# Altium integrated library Microchip PIC18.IntLib: 1897 symbols (part 46 of 110)
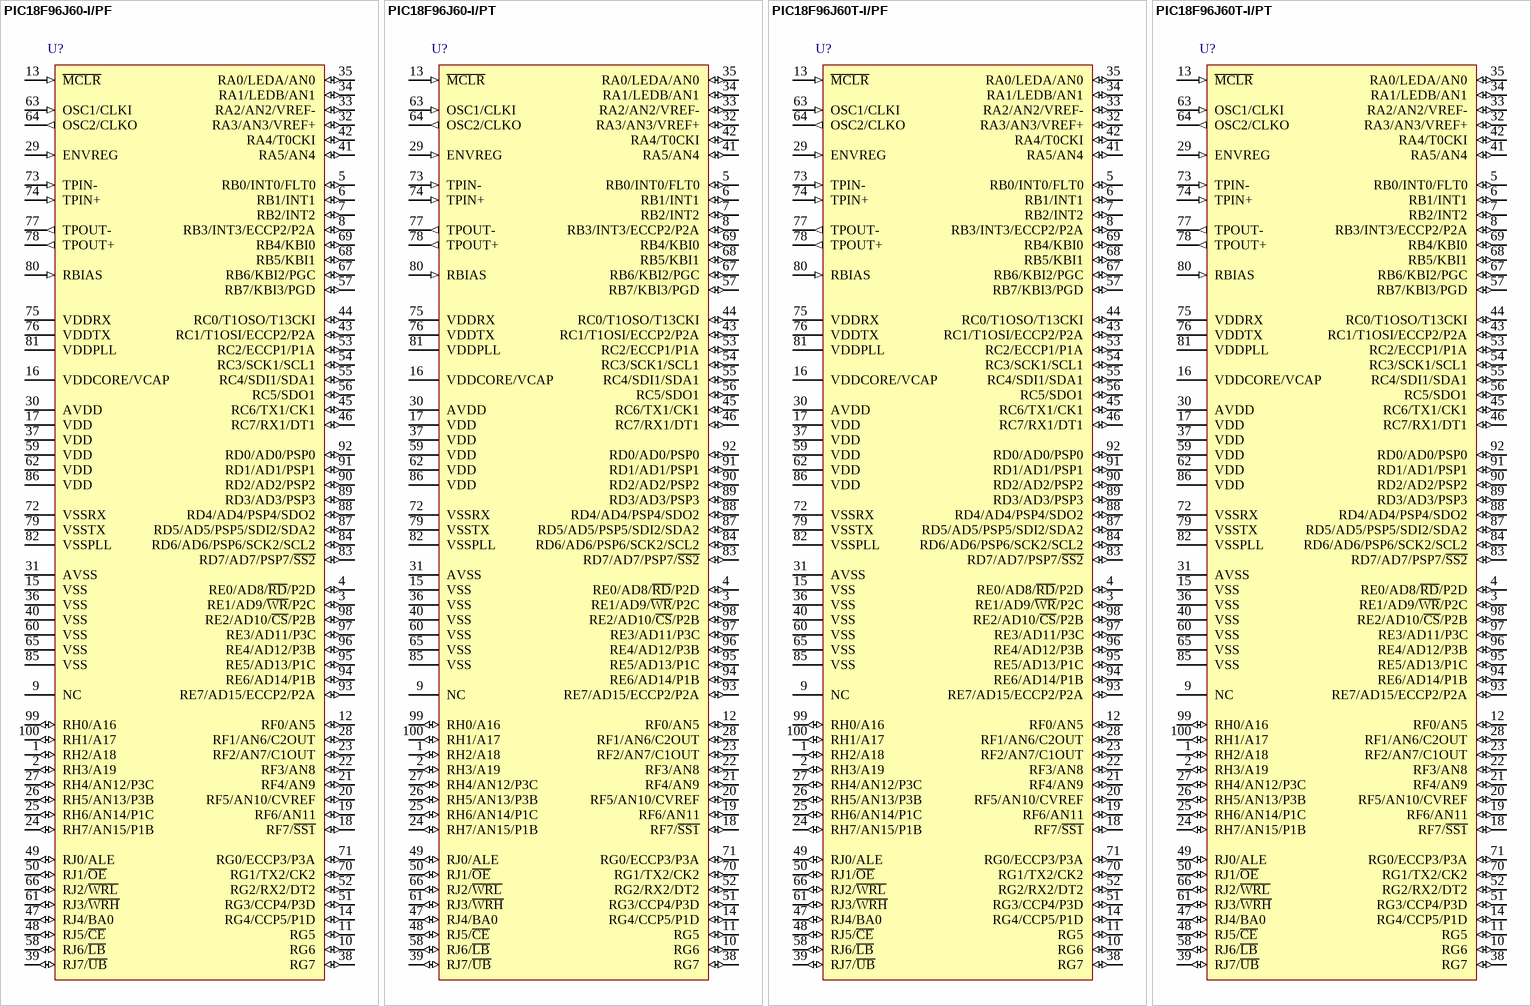
[diagram p345: symbols PIC18F96J60-I/PF to PIC18F96J60T-I/PT]

## PIC18F96J60T-I/PF
designator U?
High Performance, 1-Mbit Flash Microcontroller with Ethernet, 64K Flash, 100-Pin TQFP, Industrial Temperature Range, Tape and Reel; Manufacturer: Microchip; PartNumber: PIC18F96J60T-I/PF; DatasheetVersion: revE, Oct-2009; PackageVersion: revBB, Aug-2009; PackageReference: TQFP-PF100; PackageDescription: 100-Lead Thin Plastic Quad Flat Pack (PF) - 14x14x1mm Body, 2.00mm [TQFP]; ComponentLink1Description: Manufacturer URL; ComponentLink1URL: http://www.microchip.com/; ComponentLink2Description: Datasheet; ComponentLink2URL: http://ww1.microchip.com/downloads/en/DeviceDoc/39762e.pdf; ComponentLink3Description: Package Specification; ComponentLink3URL: http://www.microchip.com/stellent/groups/techpub_sg/documents/packagingspec/en012702.pdf
footprint TQFP-PF100_N (Thin QFP, 100-Leads, Body 14x14mm, Pitch 0.5mm, IPC Medium Density)
footprint TQFP-PF100_L (Thin QFP, 100-Leads, Body 14x14mm, Pitch 0.5mm, IPC High Density)
footprint TQFP-PF100_M (Thin QFP, 100-Leads, Body 14x14mm, Pitch 0.5mm, IPC Low Density)
pins: 1 RH2/A18 (io), 2 RH3/A19 (io), 3 RE1/AD9/~{WR}/P2C (io), 4 RE0/AD8/~{RD}/P2D (io), 5 RB0/INT0/FLT0 (io), 6 RB1/INT1 (io), 7 RB2/INT2 (io), 8 RB3/INT3/ECCP2/P2A (io), 9 NC, 10 RG6 (io), 11 RG5 (io), 12 RF0/AN5 (io), 13 ~{MCLR} (in), 14 RG4/CCP5/P1D (io), 15 VSS (power), 16 VDDCORE/VCAP (power), 17 VDD (power), 18 RF7/~{SS1} (io), 19 RF6/AN11 (io), 20 RF5/AN10/CVREF (io), 21 RF4/AN9 (io), 22 RF3/AN8 (io), 23 RF2/AN7/C1OUT (io), 24 RH7/AN15/P1B (io), 25 RH6/AN14/P1C (io), 26 RH5/AN13/P3B (io), 27 RH4/AN12/P3C (io), 28 RF1/AN6/C2OUT (io), 29 ENVREG (in), 30 AVDD (power), 31 AVSS (power), 32 RA3/AN3/VREF+ (io), 33 RA2/AN2/VREF- (io), 34 RA1/LEDB/AN1 (io), 35 RA0/LEDA/AN0 (io), 36 VSS (power), 37 VDD (power), 38 RG7 (io), 39 RJ7/~{UB} (io), 40 VSS (power), 41 RA5/AN4 (io), 42 RA4/T0CKI (io), 43 RC1/T1OSI/ECCP2/P2A (io), 44 RC0/T1OSO/T13CKI (io), 45 RC6/TX1/CK1 (io), 46 RC7/RX1/DT1 (io), 47 RJ4/BA0 (io), 48 RJ5/~{CE} (io), 49 RJ0/ALE (io), 50 RJ1/~{OE} (io), 51 RG3/CCP4/P3D (io), 52 RG2/RX2/DT2 (io), 53 RC2/ECCP1/P1A (io), 54 RC3/SCK1/SCL1 (io), 55 RC4/SDI1/SDA1 (io), 56 RC5/SDO1 (io), 57 RB7/KBI3/PGD (io), 58 RJ6/~{LB} (io), 59 VDD (power), 60 VSS (power), 61 RJ3/~{WRH} (io), 62 VDD (power), 63 OSC1/CLKI (in), 64 OSC2/CLKO (out), 65 VSS (power), 66 RJ2/~{WRL} (io), 67 RB6/KBI2/PGC (io), 68 RB5/KBI1 (io), 69 RB4/KBI0 (io), 70 RG1/TX2/CK2 (io), 71 RG0/ECCP3/P3A (io), 72 VSSRX (power), 73 TPIN- (in), 74 TPIN+ (in), 75 VDDRX (power), 76 VDDTX (power), 77 TPOUT- (out), 78 TPOUT+ (out), 79 VSSTX (power), 80 RBIAS (in), 81 VDDPLL (power), 82 VSSPLL (power), 83 RD7/AD7/PSP7/~{SS2} (io), 84 RD6/AD6/PSP6/SCK2/SCL2 (io), 85 VSS (power), 86 VDD (power), 87 RD5/AD5/PSP5/SDI2/SDA2 (io), 88 RD4/AD4/PSP4/SDO2 (io), 89 RD3/AD3/PSP3 (io), 90 RD2/AD2/PSP2 (io), 91 RD1/AD1/PSP1 (io), 92 RD0/AD0/PSP0 (io), 93 RE7/AD15/ECCP2/P2A (io), 94 RE6/AD14/P1B (io), 95 RE5/AD13/P1C (io), 96 RE4/AD12/P3B (io), 97 RE3/AD11/P3C (io), 98 RE2/AD10/~{CS}/P2B (io), 99 RH0/A16 (io), 100 RH1/A17 (io)

## PIC18F96J60T-I/PT
designator U?
High Performance, 1-Mbit Flash Microcontroller with Ethernet, 64K Flash, 100-Pin TQFP, Industrial Temperature Range, Tape and Reel; Manufacturer: Microchip; PartNumber: PIC18F96J60T-I/PT; DatasheetVersion: revE, Oct-2009; PackageVersion: C04-100B, 12/2012; PackageReference: TQFP-PT100; PackageDescription: 100-Lead Plastic Thin Quad Flatpack, 12 x 12 mm Body, 0.4 mm Pitch; ComponentLink1Description: Manufacturer URL; ComponentLink1URL: http://www.microchip.com/; ComponentLink2Description: Datasheet; ComponentLink2URL: http://ww1.microchip.com/downloads/en/DeviceDoc/39762e.pdf; ComponentLink3Description: Package Specification; ComponentLink3URL: http://www.microchip.com/stellent/groups/techpub_sg/documents/packagingspec/en012702.pdf
footprint MCHP-TQFP-PT100_N (QFP, 100-Leads, Body 12x12mm, Pitch 0.4mm, IPC Medium Density)
footprint MCHP-TQFP-PT100_L (QFP, 100-Leads, Body 12x12mm, Pitch 0.4mm, IPC High Density)
footprint MCHP-TQFP-PT100_M (TQFP, 100-Leads, Body 12x12mm, Pitch 0.4mm, IPC Low Density)
pins: 1 RH2/A18 (io), 2 RH3/A19 (io), 3 RE1/AD9/~{WR}/P2C (io), 4 RE0/AD8/~{RD}/P2D (io), 5 RB0/INT0/FLT0 (io), 6 RB1/INT1 (io), 7 RB2/INT2 (io), 8 RB3/INT3/ECCP2/P2A (io), 9 NC, 10 RG6 (io), 11 RG5 (io), 12 RF0/AN5 (io), 13 ~{MCLR} (in), 14 RG4/CCP5/P1D (io), 15 VSS (power), 16 VDDCORE/VCAP (power), 17 VDD (power), 18 RF7/~{SS1} (io), 19 RF6/AN11 (io), 20 RF5/AN10/CVREF (io), 21 RF4/AN9 (io), 22 RF3/AN8 (io), 23 RF2/AN7/C1OUT (io), 24 RH7/AN15/P1B (io), 25 RH6/AN14/P1C (io), 26 RH5/AN13/P3B (io), 27 RH4/AN12/P3C (io), 28 RF1/AN6/C2OUT (io), 29 ENVREG (in), 30 AVDD (power), 31 AVSS (power), 32 RA3/AN3/VREF+ (io), 33 RA2/AN2/VREF- (io), 34 RA1/LEDB/AN1 (io), 35 RA0/LEDA/AN0 (io), 36 VSS (power), 37 VDD (power), 38 RG7 (io), 39 RJ7/~{UB} (io), 40 VSS (power), 41 RA5/AN4 (io), 42 RA4/T0CKI (io), 43 RC1/T1OSI/ECCP2/P2A (io), 44 RC0/T1OSO/T13CKI (io), 45 RC6/TX1/CK1 (io), 46 RC7/RX1/DT1 (io), 47 RJ4/BA0 (io), 48 RJ5/~{CE} (io), 49 RJ0/ALE (io), 50 RJ1/~{OE} (io), 51 RG3/CCP4/P3D (io), 52 RG2/RX2/DT2 (io), 53 RC2/ECCP1/P1A (io), 54 RC3/SCK1/SCL1 (io), 55 RC4/SDI1/SDA1 (io), 56 RC5/SDO1 (io), 57 RB7/KBI3/PGD (io), 58 RJ6/~{LB} (io), 59 VDD (power), 60 VSS (power), 61 RJ3/~{WRH} (io), 62 VDD (power), 63 OSC1/CLKI (in), 64 OSC2/CLKO (out), 65 VSS (power), 66 RJ2/~{WRL} (io), 67 RB6/KBI2/PGC (io), 68 RB5/KBI1 (io), 69 RB4/KBI0 (io), 70 RG1/TX2/CK2 (io), 71 RG0/ECCP3/P3A (io), 72 VSSRX (power), 73 TPIN- (in), 74 TPIN+ (in), 75 VDDRX (power), 76 VDDTX (power), 77 TPOUT- (out), 78 TPOUT+ (out), 79 VSSTX (power), 80 RBIAS (in), 81 VDDPLL (power), 82 VSSPLL (power), 83 RD7/AD7/PSP7/~{SS2} (io), 84 RD6/AD6/PSP6/SCK2/SCL2 (io), 85 VSS (power), 86 VDD (power), 87 RD5/AD5/PSP5/SDI2/SDA2 (io), 88 RD4/AD4/PSP4/SDO2 (io), 89 RD3/AD3/PSP3 (io), 90 RD2/AD2/PSP2 (io), 91 RD1/AD1/PSP1 (io), 92 RD0/AD0/PSP0 (io), 93 RE7/AD15/ECCP2/P2A (io), 94 RE6/AD14/P1B (io), 95 RE5/AD13/P1C (io), 96 RE4/AD12/P3B (io), 97 RE3/AD11/P3C (io), 98 RE2/AD10/~{CS}/P2B (io), 99 RH0/A16 (io), 100 RH1/A17 (io)

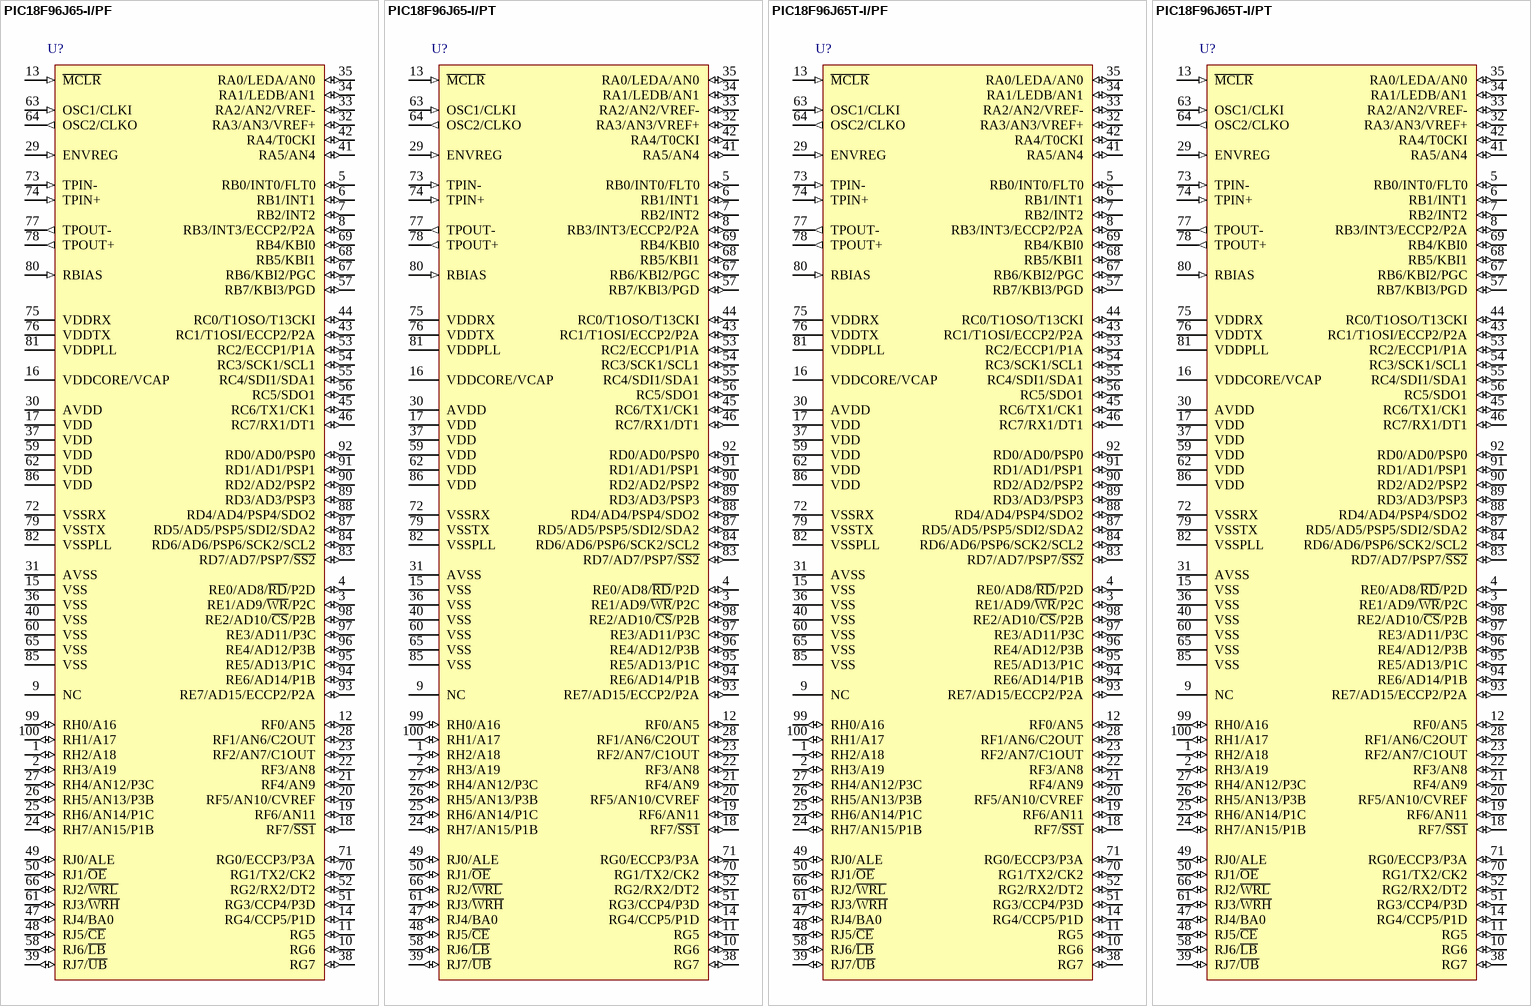
[diagram p85: symbols PIC18F96J65-I/PF to PIC18F96J65T-I/PT]

## PIC18F96J65-I/PF
designator U?
High Performance, 1-Mbit Flash Microcontroller with Ethernet, 96K Flash, 100-Pin TQFP, Industrial Temperature Range; Manufacturer: Microchip; PartNumber: PIC18F96J65-I/PF; DatasheetVersion: revE, Oct-2009; PackageVersion: revBB, Aug-2009; PackageReference: TQFP-PF100; PackageDescription: 100-Lead Thin Plastic Quad Flat Pack (PF) - 14x14x1mm Body, 2.00mm [TQFP]; ComponentLink1Description: Manufacturer URL; ComponentLink1URL: http://www.microchip.com/; ComponentLink2Description: Datasheet; ComponentLink2URL: http://ww1.microchip.com/downloads/en/DeviceDoc/39762e.pdf; ComponentLink3Description: Package Specification; ComponentLink3URL: http://www.microchip.com/stellent/groups/techpub_sg/documents/packagingspec/en012702.pdf
footprint TQFP-PF100_N (Thin QFP, 100-Leads, Body 14x14mm, Pitch 0.5mm, IPC Medium Density)
footprint TQFP-PF100_L (Thin QFP, 100-Leads, Body 14x14mm, Pitch 0.5mm, IPC High Density)
footprint TQFP-PF100_M (Thin QFP, 100-Leads, Body 14x14mm, Pitch 0.5mm, IPC Low Density)
pins: 1 RH2/A18 (io), 2 RH3/A19 (io), 3 RE1/AD9/~{WR}/P2C (io), 4 RE0/AD8/~{RD}/P2D (io), 5 RB0/INT0/FLT0 (io), 6 RB1/INT1 (io), 7 RB2/INT2 (io), 8 RB3/INT3/ECCP2/P2A (io), 9 NC, 10 RG6 (io), 11 RG5 (io), 12 RF0/AN5 (io), 13 ~{MCLR} (in), 14 RG4/CCP5/P1D (io), 15 VSS (power), 16 VDDCORE/VCAP (power), 17 VDD (power), 18 RF7/~{SS1} (io), 19 RF6/AN11 (io), 20 RF5/AN10/CVREF (io), 21 RF4/AN9 (io), 22 RF3/AN8 (io), 23 RF2/AN7/C1OUT (io), 24 RH7/AN15/P1B (io), 25 RH6/AN14/P1C (io), 26 RH5/AN13/P3B (io), 27 RH4/AN12/P3C (io), 28 RF1/AN6/C2OUT (io), 29 ENVREG (in), 30 AVDD (power), 31 AVSS (power), 32 RA3/AN3/VREF+ (io), 33 RA2/AN2/VREF- (io), 34 RA1/LEDB/AN1 (io), 35 RA0/LEDA/AN0 (io), 36 VSS (power), 37 VDD (power), 38 RG7 (io), 39 RJ7/~{UB} (io), 40 VSS (power), 41 RA5/AN4 (io), 42 RA4/T0CKI (io), 43 RC1/T1OSI/ECCP2/P2A (io), 44 RC0/T1OSO/T13CKI (io), 45 RC6/TX1/CK1 (io), 46 RC7/RX1/DT1 (io), 47 RJ4/BA0 (io), 48 RJ5/~{CE} (io), 49 RJ0/ALE (io), 50 RJ1/~{OE} (io), 51 RG3/CCP4/P3D (io), 52 RG2/RX2/DT2 (io), 53 RC2/ECCP1/P1A (io), 54 RC3/SCK1/SCL1 (io), 55 RC4/SDI1/SDA1 (io), 56 RC5/SDO1 (io), 57 RB7/KBI3/PGD (io), 58 RJ6/~{LB} (io), 59 VDD (power), 60 VSS (power), 61 RJ3/~{WRH} (io), 62 VDD (power), 63 OSC1/CLKI (in), 64 OSC2/CLKO (out), 65 VSS (power), 66 RJ2/~{WRL} (io), 67 RB6/KBI2/PGC (io), 68 RB5/KBI1 (io), 69 RB4/KBI0 (io), 70 RG1/TX2/CK2 (io), 71 RG0/ECCP3/P3A (io), 72 VSSRX (power), 73 TPIN- (in), 74 TPIN+ (in), 75 VDDRX (power), 76 VDDTX (power), 77 TPOUT- (out), 78 TPOUT+ (out), 79 VSSTX (power), 80 RBIAS (in), 81 VDDPLL (power), 82 VSSPLL (power), 83 RD7/AD7/PSP7/~{SS2} (io), 84 RD6/AD6/PSP6/SCK2/SCL2 (io), 85 VSS (power), 86 VDD (power), 87 RD5/AD5/PSP5/SDI2/SDA2 (io), 88 RD4/AD4/PSP4/SDO2 (io), 89 RD3/AD3/PSP3 (io), 90 RD2/AD2/PSP2 (io), 91 RD1/AD1/PSP1 (io), 92 RD0/AD0/PSP0 (io), 93 RE7/AD15/ECCP2/P2A (io), 94 RE6/AD14/P1B (io), 95 RE5/AD13/P1C (io), 96 RE4/AD12/P3B (io), 97 RE3/AD11/P3C (io), 98 RE2/AD10/~{CS}/P2B (io), 99 RH0/A16 (io), 100 RH1/A17 (io)

## PIC18F96J65-I/PT
designator U?
High Performance, 1-Mbit Flash Microcontroller with Ethernet, 96K Flash, 100-Pin TQFP, Industrial Temperature Range; Manufacturer: Microchip; PartNumber: PIC18F96J65-I/PT; DatasheetVersion: revE, Oct-2009; PackageVersion: C04-100B, 12/2012; PackageReference: TQFP-PT100; PackageDescription: 100-Lead Plastic Thin Quad Flatpack, 12 x 12 mm Body, 0.4 mm Pitch; ComponentLink1Description: Manufacturer URL; ComponentLink1URL: http://www.microchip.com/; ComponentLink2Description: Datasheet; ComponentLink2URL: http://ww1.microchip.com/downloads/en/DeviceDoc/39762e.pdf; ComponentLink3Description: Package Specification; ComponentLink3URL: http://www.microchip.com/stellent/groups/techpub_sg/documents/packagingspec/en012702.pdf
footprint MCHP-TQFP-PT100_N (QFP, 100-Leads, Body 12x12mm, Pitch 0.4mm, IPC Medium Density)
footprint MCHP-TQFP-PT100_L (QFP, 100-Leads, Body 12x12mm, Pitch 0.4mm, IPC High Density)
footprint MCHP-TQFP-PT100_M (TQFP, 100-Leads, Body 12x12mm, Pitch 0.4mm, IPC Low Density)
pins: 1 RH2/A18 (io), 2 RH3/A19 (io), 3 RE1/AD9/~{WR}/P2C (io), 4 RE0/AD8/~{RD}/P2D (io), 5 RB0/INT0/FLT0 (io), 6 RB1/INT1 (io), 7 RB2/INT2 (io), 8 RB3/INT3/ECCP2/P2A (io), 9 NC, 10 RG6 (io), 11 RG5 (io), 12 RF0/AN5 (io), 13 ~{MCLR} (in), 14 RG4/CCP5/P1D (io), 15 VSS (power), 16 VDDCORE/VCAP (power), 17 VDD (power), 18 RF7/~{SS1} (io), 19 RF6/AN11 (io), 20 RF5/AN10/CVREF (io), 21 RF4/AN9 (io), 22 RF3/AN8 (io), 23 RF2/AN7/C1OUT (io), 24 RH7/AN15/P1B (io), 25 RH6/AN14/P1C (io), 26 RH5/AN13/P3B (io), 27 RH4/AN12/P3C (io), 28 RF1/AN6/C2OUT (io), 29 ENVREG (in), 30 AVDD (power), 31 AVSS (power), 32 RA3/AN3/VREF+ (io), 33 RA2/AN2/VREF- (io), 34 RA1/LEDB/AN1 (io), 35 RA0/LEDA/AN0 (io), 36 VSS (power), 37 VDD (power), 38 RG7 (io), 39 RJ7/~{UB} (io), 40 VSS (power), 41 RA5/AN4 (io), 42 RA4/T0CKI (io), 43 RC1/T1OSI/ECCP2/P2A (io), 44 RC0/T1OSO/T13CKI (io), 45 RC6/TX1/CK1 (io), 46 RC7/RX1/DT1 (io), 47 RJ4/BA0 (io), 48 RJ5/~{CE} (io), 49 RJ0/ALE (io), 50 RJ1/~{OE} (io), 51 RG3/CCP4/P3D (io), 52 RG2/RX2/DT2 (io), 53 RC2/ECCP1/P1A (io), 54 RC3/SCK1/SCL1 (io), 55 RC4/SDI1/SDA1 (io), 56 RC5/SDO1 (io), 57 RB7/KBI3/PGD (io), 58 RJ6/~{LB} (io), 59 VDD (power), 60 VSS (power), 61 RJ3/~{WRH} (io), 62 VDD (power), 63 OSC1/CLKI (in), 64 OSC2/CLKO (out), 65 VSS (power), 66 RJ2/~{WRL} (io), 67 RB6/KBI2/PGC (io), 68 RB5/KBI1 (io), 69 RB4/KBI0 (io), 70 RG1/TX2/CK2 (io), 71 RG0/ECCP3/P3A (io), 72 VSSRX (power), 73 TPIN- (in), 74 TPIN+ (in), 75 VDDRX (power), 76 VDDTX (power), 77 TPOUT- (out), 78 TPOUT+ (out), 79 VSSTX (power), 80 RBIAS (in), 81 VDDPLL (power), 82 VSSPLL (power), 83 RD7/AD7/PSP7/~{SS2} (io), 84 RD6/AD6/PSP6/SCK2/SCL2 (io), 85 VSS (power), 86 VDD (power), 87 RD5/AD5/PSP5/SDI2/SDA2 (io), 88 RD4/AD4/PSP4/SDO2 (io), 89 RD3/AD3/PSP3 (io), 90 RD2/AD2/PSP2 (io), 91 RD1/AD1/PSP1 (io), 92 RD0/AD0/PSP0 (io), 93 RE7/AD15/ECCP2/P2A (io), 94 RE6/AD14/P1B (io), 95 RE5/AD13/P1C (io), 96 RE4/AD12/P3B (io), 97 RE3/AD11/P3C (io), 98 RE2/AD10/~{CS}/P2B (io), 99 RH0/A16 (io), 100 RH1/A17 (io)